# Altium schematic symbol library OTA.SchLib: 1 symbol
Pins are listed as number, name and electrical type; pins without a type are passive.

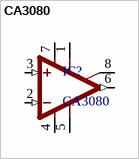
[diagram p0: symbol CA3080]

## CA3080
designator IC?
footprint DIP8
pins: 1 ON1, 2 -IN (in), 3 +IN (in), 4 V- (power), 5 OPT, 6 OUT (out), 7 V+ (power), 8 ON2